# Altium footprint library VERSTERKERS.PcbLib: 1 footprints
Each footprint in its own frame and in the unit in brackets; x right, y up, seen from the top. Pads: shape width x height; smd on the part's side, far side on the other; paste and mask are expansions set on the pad; w line width, h text height; cw(c..) or ccw(c..) is an arc to the next point about the centre after c.
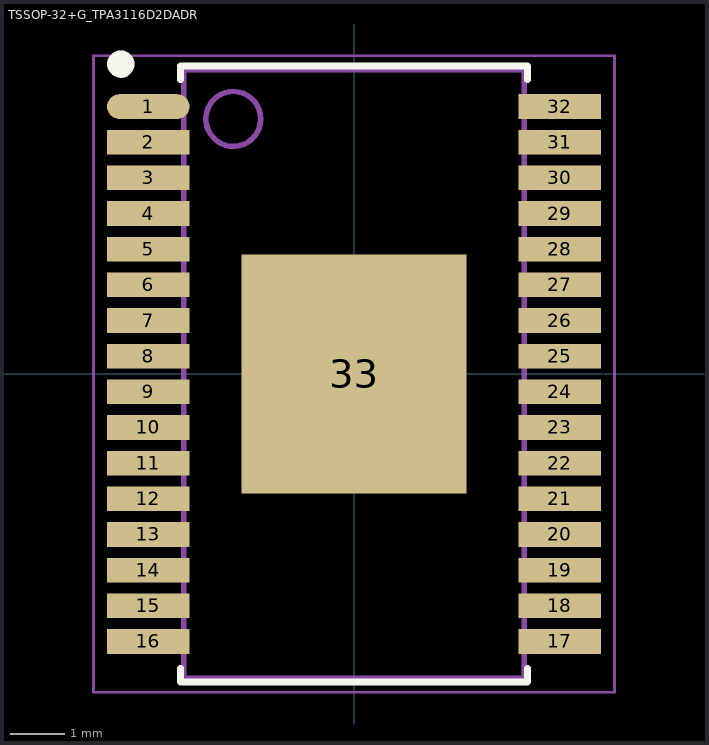
[diagram p0: the footprint, top view; thin cyan lines are the x and y axes]

## TSSOP-32+G_TPA3116D2DADR [mm] "class-D,50W,THD+N=0.1,4.5V-26V"
height 1.2
pads (33):
  oval 1.5x0.45 smd: 1(-3.75,4.875)
  rect 1.5x0.45 smd: 2(-3.75,4.225) 3(-3.75,3.575) 4(-3.75,2.925) 5(-3.75,2.275) 6(-3.75,1.625) 7(-3.75,0.975) 8(-3.75,0.325) 9(-3.75,-0.325) 10(-3.75,-0.975) 11(-3.75,-1.625) 12(-3.75,-2.275) 13(-3.75,-2.925) 14(-3.75,-3.575) 15(-3.75,-4.225) 16(-3.75,-4.875) 17(3.75,-4.875) 18(3.75,-4.225) 19(3.75,-3.575) 20(3.75,-2.925) 21(3.75,-2.275) 22(3.75,-1.625) 23(3.75,-0.975) 24(3.75,-0.325) 25(3.75,0.325) 26(3.75,0.975) 27(3.75,1.625) 28(3.75,2.275) 29(3.75,2.925) 30(3.75,3.575) 31(3.75,4.225) 32(3.75,4.875)
  rect 4.11x4.36 smd paste-2.055: 33(0,0)
Top Overlay:
  circle w0.25: c-4.25,5.65 r0.125
  lines w0.127: -3.163,-5.364 -3.163,-5.614 3.163,-5.614 3.163,-5.364 ; -3.163,5.363 -3.163,5.613 3.163,5.613 3.163,5.363
Top Paste:
  rectangle: 0.259,-1.662 1.537,-0.259
  rectangle: 0.259,0.259 1.537,1.662
  rectangle: -1.537,-1.662 -0.259,-0.259
  rectangle: -1.537,0.259 -0.259,1.662
Mechanical 13:
  circle w0.1: c-2.2,4.65 r0.5
  lines w0.1: -3.1,-5.55 3.1,-5.55 3.1,5.55 -3.1,5.55 -3.1,-5.55
Mechanical 15:
  lines w0.05: -4.75,-5.8 4.75,-5.8 4.75,5.8 -4.75,5.8 -4.75,-5.8
  lines w0.1: -0.5,0 0.5,0 ; 0,-0.5 0,0.5
3D body "TPA3116D2DADR.stp": height 1.2, standoff 0, extent -4.05,-5.5 4.05,5.5